# EAGLE library part AD7730 (library ad)
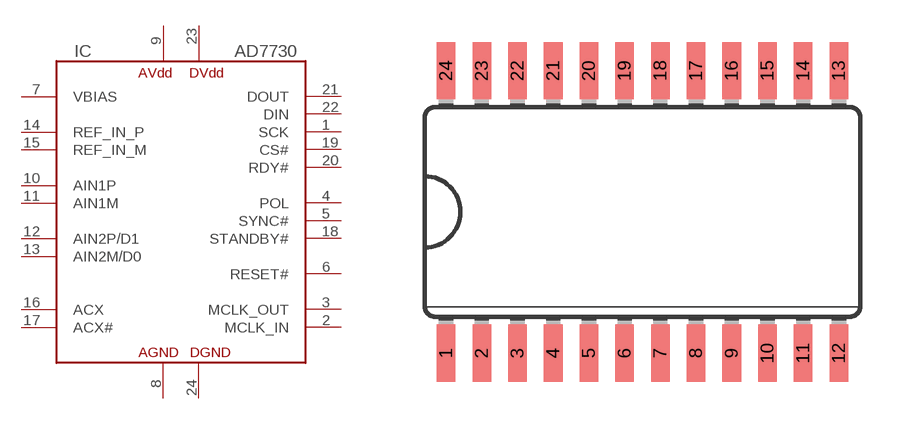
[diagram p0: symbol with the pads of SO24W; footprint SO24W]

Designator prefix IC

## AD7730  [SO24W]
1  SCK  in
2  MCLK_IN  pas
3  MCLK_OUT  pas
4  POL  in
5  SYNC#  in
6  RESET#  in
7  VBIAS  pas
8  AGND  pwr
9  AVDD  pwr
10  AIN1P  in
11  AIN1M  in
12  AIN2P/D1  in
13  AIN2M/D0  in
14  REF_IN_P  in
15  REF_IN_M  in
16  ACX  in
17  ACX#  in
18  STANDBY#  in
19  CS#  in
20  RDY#  out
21  DOUT  out
22  DIN  in
23  DVDD  pwr
24  DGND  pwr

## Footprint SO24W (pad centres in mm)
Wide Small Outline package 300 mil
smd 0.66 x 2.032: 1 -6.985,-5.029; 2 -5.715,-5.029; 3 -4.445,-5.029; 4 -3.175,-5.029; 5 -1.905,-5.029; 6 -0.635,-5.029; 7 0.635,-5.029; 8 1.905,-5.029; 9 3.175,-5.029; 10 4.445,-5.029; 11 5.715,-5.029; 12 6.985,-5.029; 13 6.985,5.029; 14 5.715,5.029; 15 4.445,5.029; 16 3.175,5.029; 17 1.905,5.029; 18 0.635,5.029; 19 -0.635,5.029; 20 -1.905,5.029; 21 -3.175,5.029; 22 -4.445,5.029; 23 -5.715,5.029; 24 -6.985,5.029